# Altium schematic symbol library 74438336010.SchLib: 1 symbol
Pins are listed as number, name and electrical type; pins without a type are passive.

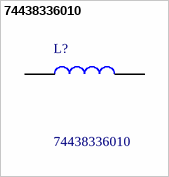
[diagram p0: symbol 74438336010]

## 74438336010
designator L?
WE-MAPI SMT Power Inductor Size 3020; L = 1 H +/-20%; IR = 6.15 A; Isat = 6.5 A; RDCmax = 32 m; Manufacturer_Name: Wurth Elektronik; Geometry.Height: 2mm; Mouser Part Number: 710-74438336010; Mouser Price/Stock: https://www.mouser.co.uk/ProductDetail/Wurth-Elektronik/74438336010?qs=iC14BvcgY%2F2UNRD3pEjYYg%3D%3D; Manufacturer_Part_Number: 74438336010; Datasheet Link: https://www.we-online.com/catalog/datasheet/74438336010.pdf
footprint INDC3030X200N
pins: 1, 2